# Altium schematic symbol library 176920522.SchLib: 1 symbol
Pins are listed as number, name and electrical type; pins without a type are passive.

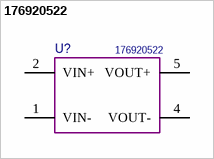
[diagram p0: symbol 176920522]

## 176920522
designator U?
MagI³C-FISM Fixed Isolated Module, SMT-8, 12 Vin, 5 Vout; Output Voltage: 5 V; Output Power: 1 W; Input Voltage: 12 V; ComponentLink1Description: Manufacturer; ComponentLink1URL: http://www.we-online.de; ComponentLink2Description: Datasheet; ComponentLink2URL: https://katalog.we-online.de/pm/datasheet/176920522.pdf; Part Number: 176920522; Published Date: August 2018; Publisher: Wurth Elektronik; Size: SMT-8; Mounting Technology: SMT; Operating Temperature: -40 to 100 degC; Packaging: Tape and Reel
pins: 1 VIN-, 2 VIN+, 4 VOUT-, 5 VOUT+